# EAGLE library part AD8232 (library RFDuino)
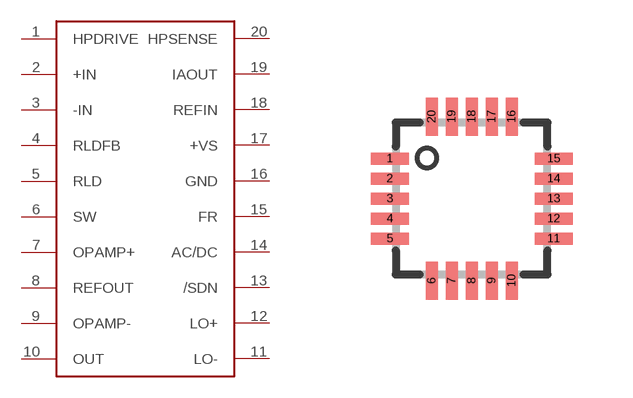
[diagram p1: symbol with the pads of QFN20; footprint QFN20]

Designator prefix -

## AD8232  [QFN20]
1  HPDRIVE
2  +IN
3  -IN
4  RLDFB
5  RLD
6  SW
7  OPAMP+
8  REFOUT
9  OPAMP-
10  OUT
11  LO-
12  LO+
13  /SDN
14  AC/DC
15  FR
16  GND
17  +VS
18  REFIN
19  IAOUT
20  HPSENSE

## Footprint QFN20 (pad centres in mm)
ES Package, 20-Contact QFN with Exposed Thermal Pad Data sheet <http://www.allegromicro.com/en/Products/Part_Numbers/3906/3906.pdf>
smd 0.95 x 0.3: 1 -2.05,1; 2 -2.05,0.5; 3 -2.05,0; 4 -2.05,-0.5; 5 -2.05,-1; 11 2.05,-1; 12 2.05,-0.5; 13 2.05,0; 14 2.05,0.5; 15 2.05,1
smd 0.3 x 0.95: 6 -1,-2.05; 7 -0.5,-2.05; 8 0,-2.05; 9 0.5,-2.05; 10 1,-2.05; 16 1,2.05; 17 0.5,2.05; 18 0,2.05; 19 -0.5,2.05; 20 -1,2.05